# Altium footprint library Connectors.PcbLib: 147 footprints (part 9 of 10)
Each footprint in its own frame and in the unit in brackets; x right, y up, seen from the top. Pads: shape width x height; smd on the part's side, far side on the other; paste and mask are expansions set on the pad; w line width, h text height; cw(c..) or ccw(c..) is an arc to the next point about the centre after c.
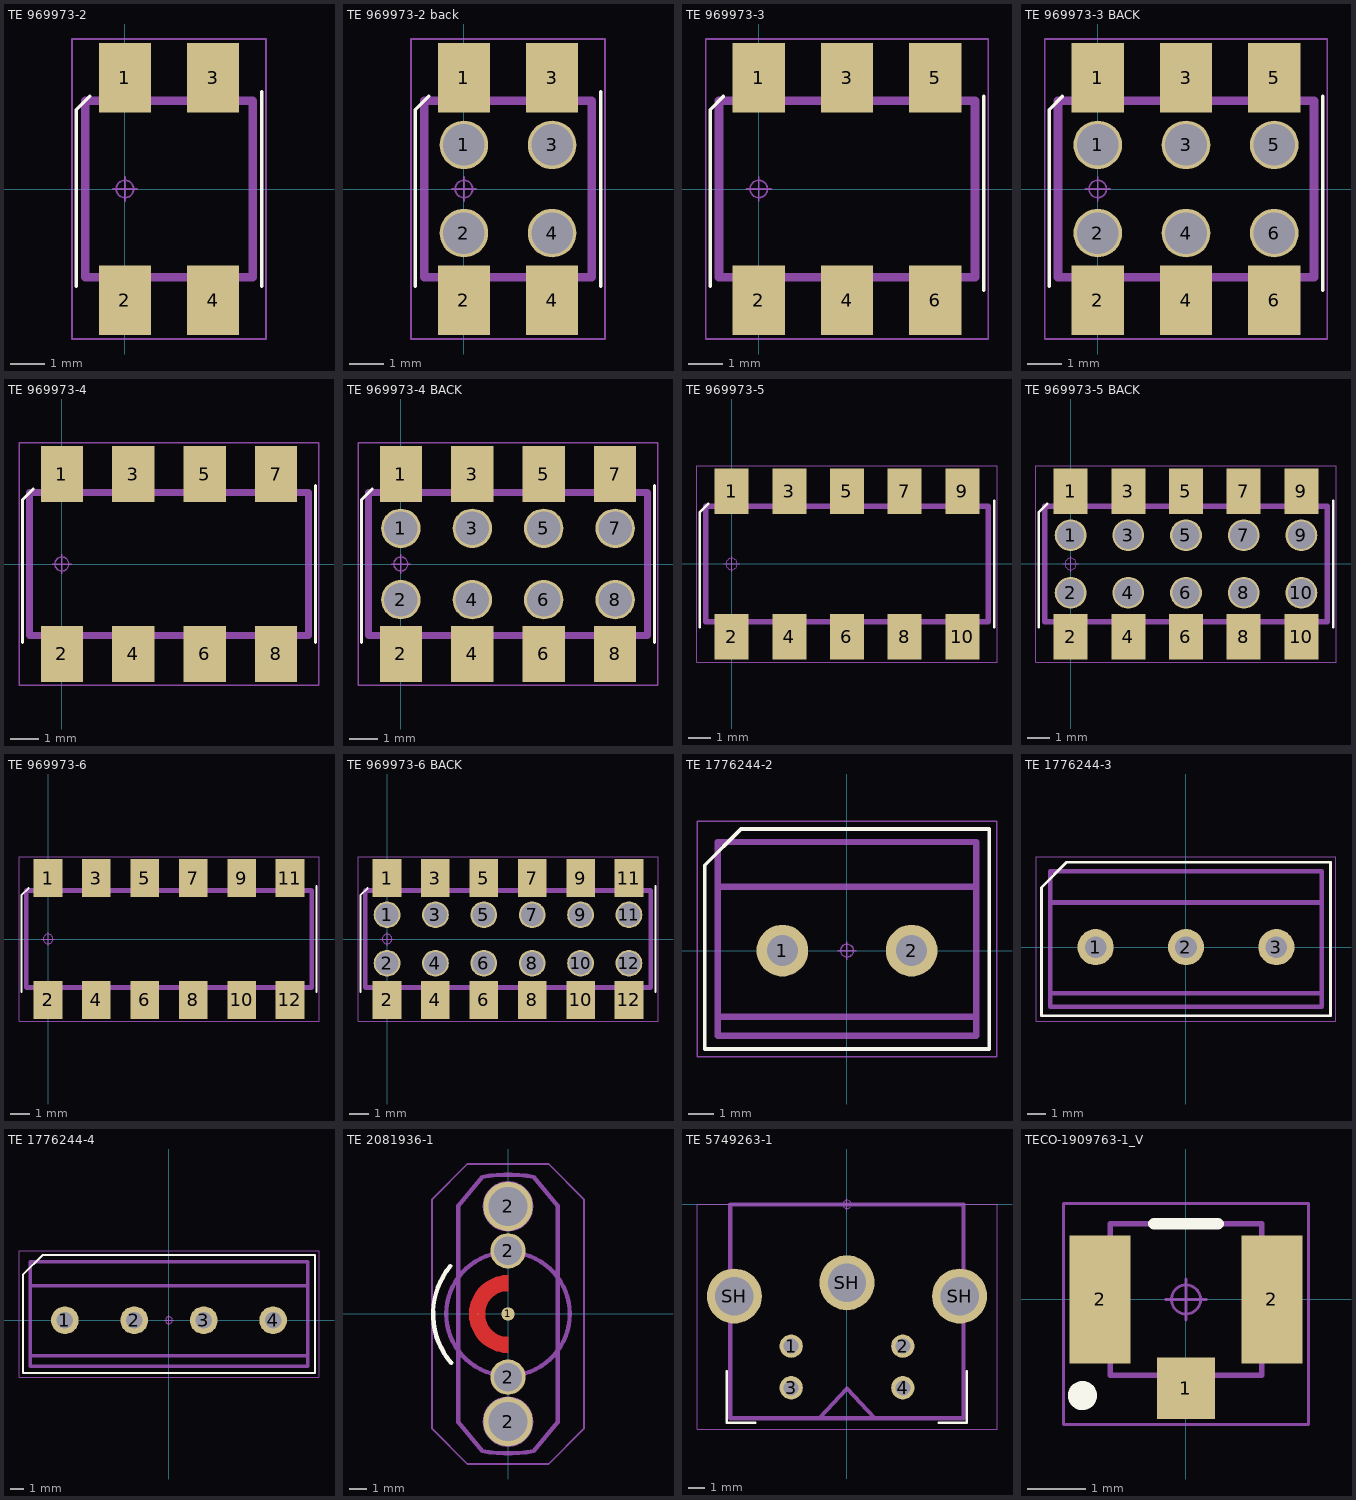
[diagram p8: the footprints below, top view; thin cyan lines are the x and y axes]

## TE 969973-2 [mm] "2x2P HV100 REC DOUBLE ROW"
height 6.2
pads (4):
  rect 1.5x2 smd: 1(0,3.2) 2(0,-3.2) 3(2.54,3.2) 4(2.54,-3.2)
Top Overlay:
  lines w0.1: -1.397,-2.794 -1.397,2.286 -1.016,2.667 ; 3.937,-2.794 3.937,2.794
Top Assembly:
  lines w0.25: -1.143,-2.54 -1.143,2.54 3.683,2.54 3.683,-2.54 -1.143,-2.54
  text ".Designator" at -0.8,-0.4 h1.5
Top Courtyard:
  circle w0.05: c0,0 r0.25
  lines w0.05: -0.35,0 0.35,0 ; 0,-0.35 0,0.35 ; -1.524,-4.318 4.064,-4.318 4.064,4.318 -1.524,4.318 -1.524,-4.318
3D body "969973-2 series.STEP": height 6.2, standoff 0, extent -1.17,-3.825 3.71,3.825

## TE 969973-2 back [mm] "2x2P HV100 REC DOUBLE ROW WITH HOLES"
height 6.2
pads (8):
  round 1.4 hole 1.2 paste-2539.97 mask+0: 1(0,1.27) 2(0,-1.27) 3(2.54,1.27) 4(2.54,-1.27)
  rect 1.5x2 smd: 1(0,3.2) 2(0,-3.2) 3(2.54,3.2) 4(2.54,-3.2)
Top Overlay:
  lines w0.1: -1.397,-2.794 -1.397,2.286 -1.016,2.667 ; 3.937,-2.794 3.937,2.794
Top Assembly:
  lines w0.25: -1.143,-2.54 3.683,-2.54 3.683,2.54 -1.143,2.54 -1.143,-2.54
  text ".Designator" at -0.7,-0.4 h1.5
Top Courtyard:
  circle w0.05: c0,0 r0.25
  lines w0.05: -0.35,0 0.35,0 ; 0,-0.35 0,0.35 ; -1.524,-4.318 -1.524,4.318 4.064,4.318 4.064,-4.318 -1.524,-4.318
3D body "969973-2 series.STEP": height 6.2, standoff 0, extent -1.17,-3.825 3.71,3.825

## TE 969973-3 [mm] "2x3P HV100 REC DOUBLE ROW"
height 6.2
pads (6):
  rect 1.5x2 smd: 1(0,3.2) 2(0,-3.2) 3(2.54,3.2) 4(2.54,-3.2) 5(5.08,3.2) 6(5.08,-3.2)
Top Overlay:
  lines w0.1: -1.397,-2.794 -1.397,2.286 -1.016,2.667 ; 6.477,-2.921 6.477,2.667
Top Assembly:
  lines w0.25: -1.143,-2.54 6.223,-2.54 6.223,2.54 -1.143,2.54 -1.143,-2.54
  text ".Designator" at -0.8,-0.5 h1.5
Top Courtyard:
  circle w0.05: c0,0 r0.25
  lines w0.05: -0.35,0 0.35,0 ; 0,-0.35 0,0.35 ; -1.524,-4.318 -1.524,4.318 6.604,4.318 6.604,-4.318 -1.524,-4.318
3D body "969973-3 series.STEP": height 6.2, standoff 0, extent -1.17,-3.825 6.25,3.825

## TE 969973-3 BACK [mm] "2x3P HV100 REC DOUBLE ROW WITH HOLES"
height 6.2
pads (12):
  round 1.4 hole 1.2 paste-2539.97 mask+0: 1(0,1.27) 2(0,-1.27) 3(2.54,1.27) 4(2.54,-1.27) 5(5.08,1.27) 6(5.08,-1.27)
  rect 1.5x2 smd: 1(0,3.2) 2(0,-3.2) 3(2.54,3.2) 4(2.54,-3.2) 5(5.08,3.2) 6(5.08,-3.2)
Top Overlay:
  lines w0.1: -1.397,-2.794 -1.397,2.286 -1.016,2.667 ; 6.477,-2.921 6.477,2.667
Top Assembly:
  lines w0.25: -1.143,-2.54 -1.143,2.54 6.223,2.54 6.223,-2.54 -1.143,-2.54
  text ".Designator" at -0.8,-0.5 h1.5
Top Courtyard:
  circle w0.05: c0,0 r0.25
  lines w0.05: -0.35,0 0.35,0 ; 0,-0.35 0,0.35 ; -1.524,-4.318 6.604,-4.318 6.604,4.318 -1.524,4.318 -1.524,-4.318
3D body "969973-3 series.STEP": height 6.2, standoff 0, extent -1.17,-3.825 6.25,3.825

## TE 969973-4 [mm] "2x4P HV100 REC DOUBLE ROW"
height 6.2
pads (8):
  rect 1.5x2 smd: 1(0,3.2) 2(0,-3.2) 3(2.54,3.2) 4(2.54,-3.2) 5(5.08,3.2) 6(5.08,-3.2) 7(7.62,3.2) 8(7.62,-3.2)
Top Overlay:
  lines w0.1: -1.397,-2.794 -1.397,2.286 -1.016,2.667 ; 9.017,-2.794 9.017,2.794
Top Assembly:
  lines w0.25: -1.143,-2.54 -1.143,2.54 8.763,2.54 8.763,-2.54 -1.143,-2.54
  text ".Designator" at -0.3,-0.5 h1.5
Top Courtyard:
  circle w0.05: c0,0 r0.25
  lines w0.05: -0.35,0 0.35,0 ; 0,-0.35 0,0.35 ; -1.524,-4.318 9.144,-4.318 9.144,4.318 -1.524,4.318 -1.524,-4.318
3D body "969973-4 series.STEP": height 6.2, standoff 0, extent -1.17,-3.825 8.79,3.825

## TE 969973-4 BACK [mm] "2x4P HV100 REC DOUBLE ROW WITH HOLES"
height 6.2
pads (16):
  round 1.4 hole 1.2 paste-2539.97 mask+0: 1(0,1.27) 2(0,-1.27) 3(2.54,1.27) 4(2.54,-1.27) 5(5.08,1.27) 6(5.08,-1.27) 7(7.62,1.27) 8(7.62,-1.27)
  rect 1.5x2 smd: 1(0,3.2) 2(0,-3.2) 3(2.54,3.2) 4(2.54,-3.2) 5(5.08,3.2) 6(5.08,-3.2) 7(7.62,3.2) 8(7.62,-3.2)
Top Overlay:
  lines w0.1: -1.397,-2.794 -1.397,2.286 -1.016,2.667 ; 9.017,-2.794 9.017,2.794
Top Assembly:
  lines w0.25: -1.143,-2.54 -1.143,2.54 8.763,2.54 8.763,-2.54 -1.143,-2.54
  text ".Designator" at -0.4,-0.5 h1.5
Top Courtyard:
  circle w0.05: c0,0 r0.25
  lines w0.05: -0.35,0 0.35,0 ; 0,-0.35 0,0.35 ; -1.524,-4.318 9.144,-4.318 9.144,4.318 -1.524,4.318 -1.524,-4.318
3D body "969973-4 series.STEP": height 6.2, standoff 0, extent -1.17,-3.825 8.79,3.825

## TE 969973-5 [mm] "2x5P HV100 REC DOUBLE ROW"
height 6.2
pads (10):
  rect 1.5x2 smd: 1(0,3.2) 2(0,-3.2) 3(2.54,3.2) 4(2.54,-3.2) 5(5.08,3.2) 6(5.08,-3.2) 7(7.62,3.2) 8(7.62,-3.2) 9(10.16,3.2) 10(10.16,-3.2)
Top Overlay:
  lines w0.1: -1.397,-2.794 -1.397,2.286 -1.016,2.667 ; 11.557,-2.794 11.557,2.794
Top Assembly:
  lines w0.25: -1.143,-2.54 -1.143,2.54 11.303,2.54 11.303,-2.54 -1.143,-2.54
  text ".Designator" at 0,-0.5 h1.5
Top Courtyard:
  circle w0.05: c0,0 r0.25
  lines w0.05: -0.35,0 0.35,0 ; 0,-0.35 0,0.35 ; -1.524,-4.318 11.684,-4.318 11.684,4.318 -1.524,4.318 -1.524,-4.318
3D body "969973-5 series.STEP": height 6.2, standoff 0, extent -1.17,-3.825 11.33,3.825

## TE 969973-5 BACK [mm] "2x5P HV100 REC DOUBLE ROW WITH HOLES"
height 6.2
pads (20):
  round 1.4 hole 1.2 paste-2539.97 mask+0: 1(0,1.27) 2(0,-1.27) 3(2.54,1.27) 4(2.54,-1.27) 5(5.08,1.27) 6(5.08,-1.27) 7(7.62,1.27) 8(7.62,-1.27) 9(10.16,1.27) 10(10.16,-1.27)
  rect 1.5x2 smd: 1(0,3.2) 2(0,-3.2) 3(2.54,3.2) 4(2.54,-3.2) 5(5.08,3.2) 6(5.08,-3.2) 7(7.62,3.2) 8(7.62,-3.2) 9(10.16,3.2) 10(10.16,-3.2)
Top Overlay:
  lines w0.1: -1.397,-2.794 -1.397,2.286 -1.016,2.667 ; 11.557,-2.794 11.557,2.794
Top Assembly:
  lines w0.25: -1.143,-2.54 -1.143,2.54 11.303,2.54 11.303,-2.54 -1.143,-2.54
  text ".Designator" at 0,-0.6 h1.5
Top Courtyard:
  circle w0.05: c0,0 r0.25
  lines w0.05: -0.35,0 0.35,0 ; 0,-0.35 0,0.35 ; -1.524,-4.318 11.684,-4.318 11.684,4.318 -1.524,4.318 -1.524,-4.318
3D body "969973-5 series.STEP": height 6.2, standoff 0, extent -1.17,-3.825 11.33,3.825

## TE 969973-6 [mm] "2x6P HV100 REC DOUBLE ROW"
height 6.2
pads (12):
  rect 1.5x2 smd: 1(0,3.2) 2(0,-3.2) 3(2.54,3.2) 4(2.54,-3.2) 5(5.08,3.2) 6(5.08,-3.2) 7(7.62,3.2) 8(7.62,-3.2) 9(10.16,3.2) 10(10.16,-3.2) 11(12.7,3.2) 12(12.7,-3.2)
Top Overlay:
  lines w0.1: -1.397,-2.794 -1.397,2.286 -1.016,2.667 ; 14.097,-2.794 14.097,2.794
Top Assembly:
  lines w0.25: -1.143,-2.54 -1.143,2.54 13.843,2.54 13.843,-2.54 -1.143,-2.54
  text ".Designator" at 0,-0.4 h1.5
Top Courtyard:
  circle w0.05: c0,0 r0.25
  lines w0.05: -0.35,0 0.35,0 ; 0,-0.35 0,0.35 ; -1.524,-4.318 14.224,-4.318 14.224,4.318 -1.524,4.318 -1.524,-4.318
3D body "969973-6 series.STEP": height 6.2, standoff 0, extent -1.17,-3.825 13.87,3.825

## TE 969973-6 BACK [mm] "2x6P HV100 REC DOUBLE ROW WITH HOLES"
height 6.2
pads (24):
  round 1.4 hole 1.2 paste-2539.97 mask+0: 1(0,1.27) 2(0,-1.27) 3(2.54,1.27) 4(2.54,-1.27) 5(5.08,1.27) 6(5.08,-1.27) 7(7.62,1.27) 8(7.62,-1.27) 9(10.16,1.27) 10(10.16,-1.27) 11(12.7,1.27) 12(12.7,-1.27)
  rect 1.5x2 smd: 1(0,3.2) 2(0,-3.2) 3(2.54,3.2) 4(2.54,-3.2) 5(5.08,3.2) 6(5.08,-3.2) 7(7.62,3.2) 8(7.62,-3.2) 9(10.16,3.2) 10(10.16,-3.2) 11(12.7,3.2) 12(12.7,-3.2)
Top Overlay:
  lines w0.1: -1.397,-2.794 -1.397,2.286 -1.016,2.667 ; 14.097,-2.794 14.097,2.794
Top Assembly:
  lines w0.25: -1.143,-2.54 -1.143,2.54 13.843,2.54 13.843,-2.54 -1.143,-2.54
  text ".Designator" at 0,-0.4 h1.5
Top Courtyard:
  circle w0.05: c0,0 r0.25
  lines w0.05: -0.35,0 0.35,0 ; 0,-0.35 0,0.35 ; -1.524,-4.318 14.224,-4.318 14.224,4.318 -1.524,4.318 -1.524,-4.318
3D body "969973-6 series.STEP": height 6.2, standoff 0, extent -1.17,-3.825 13.87,3.825

## TE 1776244-2 [mm] "Terminal Block PCB Mount Side Wire Entry Low Profile w/Interlock 5.0 mm Pitch (LT) UL Rating – 250 V, 10 A 14-22 AWG 2 Pos."
height 10
pads (2):
  round 2 hole 1.2 paste-2539.97: 1(-2.5,0) 2(2.5,0)
Top Overlay:
  lines w0.15: -5.5,-3.8 -5.5,3.3 -4.1,4.7 5.5,4.7 5.5,-3.8 -5.5,-3.8
  text ".Net1" at -1.867,5.102 h2
  text ".Net2" at 3.133,5.102 h2
Top Assembly:
  lines w0.25: -5,-2.56 5,-2.56 ; -5,2.47 5,2.47 ; -5,-3.3 -5,4.2 5,4.2 5,-3.3 -5,-3.3
Top Courtyard:
  circle w0.05: c0,0 r0.25
  lines w0.05: -0.35,0 0.35,0 ; 0,-0.35 0,0.35 ; -5.8,-4.1 5.8,-4.1 5.8,5 -5.8,5 -5.8,-4.1
3D body "c-1776244-2-a-3d_COLORS.STEP": height 10.01, standoff -3.49, extent -5.58,-3.3 5.58,4.2

## TE 1776244-3 [mm] "Terminal Block PCB Mount Side Wire Entry Low Profile w/Interlock 5.0 mm Pitch (LT) UL Rating – 250 V, 10 A 14-22 AWG 3 Pos."
height 10
pads (3):
  round 2 hole 1.2 paste-2539.97: 1(-5,0) 2(0,0) 3(5,0)
Top Overlay:
  lines w0.15: -8,-3.8 8,-3.8 8,4.7 -6.6,4.7 -8,3.3 -8,-3.8
  text ".Net2" at 0.633,5.102 h2
  text ".Net1" at -4.367,5.102 h2
  text ".Net3" at 5.632,5.102 h2
Top Assembly:
  lines w0.25: -7.5,-2.56 7.5,-2.56 ; -7.5,2.47 7.5,2.47 ; -7.5,-3.3 7.5,-3.3 7.5,4.2 -7.5,4.2 -7.5,-3.3
Top Courtyard:
  circle w0.05: c0,0 r0.25
  lines w0.05: -0.35,0 0.35,0 ; 0,-0.35 0,0.35 ; -8.3,-4.1 -8.3,5 8.3,5 8.3,-4.1 -8.3,-4.1
3D body "c-1776244-3-a-3d_COLORS.STEP": height 10.01, standoff -3.49, extent -8.08,-3.3 8.08,4.2

## TE 1776244-4 [mm] "Terminal Block PCB Mount Side Wire Entry Low Profile w/Interlock 5.0 mm Pitch (LT) UL Rating – 250 V, 10 A 14-22 AWG 4 Pos."
height 10
pads (4):
  round 2 hole 1.2 paste-2539.97: 1(-7.5,0) 2(-2.5,0) 3(2.5,0) 4(7.5,0)
Top Overlay:
  lines w0.15: -10.5,-3.8 10.5,-3.8 10.5,4.7 -9.1,4.7 -10.5,3.3 -10.5,-3.8
  text ".Net4" at 8.13,5.102 h2
  text ".Net2" at -1.867,5.102 h2
  text ".Net1" at -6.867,5.102 h2
  text ".Net3" at 3.132,5.102 h2
Top Assembly:
  lines w0.25: -10,-2.56 10,-2.56 ; -10,2.47 10,2.47 ; -10,-3.3 10,-3.3 10,4.2 -10,4.2 -10,-3.3
Top Courtyard:
  circle w0.05: c0,0 r0.25
  lines w0.05: -0.35,0 0.35,0 ; 0,-0.35 0,0.35 ; -10.8,-4.1 -10.8,5 10.8,5 10.8,-4.1 -10.8,-4.1
3D body "c-1776244-4-a-3d_colors.SLDPRT": height 10.01, standoff -3.49, extent -10.58,-3.3 10.58,4.2

## TE 2081936-1 [mm] "2.4mm Series RF Interface, Jack, 50 ?, Screw, 50 GHz Operating Frequency, Cable-to-Board, 1 Position, Printed Circuit Board, Panel Mount"
height 11.2
pads (6):
  round 0.76 smd paste-2539.97 mask+0.1: 1(0,0)
  round 0.025 smd paste-2539.97 mask+0.1: 2(-1.7,0)
  round 2.8 hole 2.2 paste-2539.97 mask+0.1: 2(0,-6.1) 2(0,6.1)
  round 2 hole 1.6 paste-2539.97 mask+0.1: 2(0,-3.58) 2(0,3.58)
Top Layer:
  region: 0,2.2 -0.096,2.2 -0.287,2.183 -0.477,2.15 -0.662,2.1 -0.843,2.034 -1.017,1.953 -1.183,1.857 -1.341,1.747 -1.488,1.624 -1.624,1.488 -1.747,1.341 -1.857,1.183 -1.953,1.017 -2.034,0.843 -2.1,0.662 -2.15,0.477 -2.183,0.287 -2.2,0.096 -2.2,-0.096 -2.183,-0.287 -2.15,-0.477 -2.1,-0.662 -2.034,-0.843 -1.953,-1.017 -1.857,-1.183 -1.747,-1.341 -1.624,-1.488 -1.488,-1.624 -1.341,-1.747 -1.183,-1.857 -1.017,-1.953 -0.843,-2.034 -0.662,-2.1 -0.477,-2.15 -0.287,-2.183 -0.096,-2.2 0,-2.2 0,-1.3 -0.073,-1.298 -0.218,-1.282 -0.36,-1.249 -0.497,-1.201 -0.629,-1.138 -0.752,-1.06 -0.866,-0.969 -0.969,-0.866 -1.06,-0.752 -1.138,-0.629 -1.201,-0.497 -1.249,-0.36 -1.282,-0.218 -1.298,-0.073 -1.298,0.073 -1.282,0.218 -1.249,0.36 -1.201,0.497 -1.138,0.629 -1.06,0.752 -0.969,0.866 -0.866,0.969 -0.752,1.06 -0.629,1.138 -0.497,1.201 -0.36,1.249 -0.218,1.282 -0.073,1.298 0,1.3
Top Overlay:
  lines w0.25: -3.265,2.721 ccw(c0,0) -3.227,-2.766
Top Assembly:
  circle w0.25: c0,0 r3.5
  circle w0.25: c0,6.1 r1.31
  circle w0.25: c0,-6.1 r1.31
  circle w0.25: c0,3.58 r0.6
  circle w0.25: c0,-3.58 r0.6
  lines w0.25: -2.83,-6.129 -1.469,-7.764 ccw(c0,0) 1.469,-7.764 2.83,-6.129 2.83,6.129 1.469,7.764 ccw(c0,0) -1.469,7.764 -2.83,6.129 -2.83,-6.129
  text ".Designator" at -3.378,-0.339 h1.5
Top Courtyard:
  circle w0.05: c0,0 r0.25
  lines w0.05: -0.35,0 0.35,0 ; 0,-0.35 0,0.35
  lines w0.1: -4.3,-6.5 -2.3,-8.5 2.3,-8.5 4.3,-6.5 4.3,6.5 2.3,8.5 -2.3,8.5 -4.3,6.5 -4.3,-6.5
3D body "c-2081936-1-a-3d.stp": height 11.2, standoff -0.11, extent -3.5,-7.898 3.5,7.902

## TE 5749263-1 [mm] "DIN Connectors, Mini DIN, Wire-to-Board, 4 Position, Fully Loaded, Polarization Mating Alignment Type, .26 in [6.5 mm] Centerline"
pads (7):
  round 1.4 hole 0.9 paste-2539.97: 1(-3.35,-8.5) 2(3.35,-8.5) 3(-3.35,-11) 4(3.35,-11)
  round 3.3 hole 2.3 paste-2539.97: SH(-6.76,-5.5) SH(0,-4.7) SH(6.76,-5.5)
Top Overlay:
  lines w0.15: -7.2,-10 -7.2,-13.1 -5.5,-13.1 ; 5.5,-13.1 7.2,-13.1 7.2,-10
Top Assembly:
  lines w0.25: -1.651,-12.827 0,-11.057 1.651,-12.827 ; -7,-12.83 7,-12.83 7,0 -7,0 -7,-12.83
  text ".Designator" at -3.378,-2.439 h1.5
Top Courtyard:
  circle w0.05: c0,0 r0.25
  lines w0.05: -0.35,0 0.35,0 ; 0,-0.35 0,0.35 ; -9,-13.5 9,-13.5 9,0 -9,0 -9,-13.5
3D body "c-5749263-1-a-3d_Colors.STEP": height 13.02, standoff -3.49, extent -6.998,-12.827 6.998,0.114

## TECO-1909763-1_V [mm] "SMD, 3-Leads, Body 2.6x2.6mm, Height 1.25mm"
height 1.25
pads (3):
  rect 1x1.05 smd: 1(0,-1.525)
  rect 1.05x2.2 smd: 2(-1.475,0) 2(1.475,0)
Top Overlay:
  circle w0.25: c-1.778,-1.65 r0.125
  lines w0.2: -0.55,1.3 0.55,1.3
Top Assembly:
  lines w0.1: -1.3,-1.3 1.3,-1.3 1.3,1.3 -1.3,1.3 -1.3,-1.3
  text ".Designator" at -1.05,-0.35 h1.5
Top Courtyard:
  circle w0.05: c0,0 r0.25
  lines w0.05: -0.35,0 0.35,0 ; 0,-0.35 0,0.35 ; -2.1,-2.15 -2.1,1.65 2.1,1.65 2.1,-2.15 -2.1,-2.15
3D body "c-1909763-1-b-3d.stp": height 1.23, standoff 0, extent -1.5,-1.55 1.5,1.55